# Altium schematic symbol library IHLM2525CZERR68M01.SchLib: 2 symbols
Pins are listed as number, name and electrical type; pins without a type are passive.

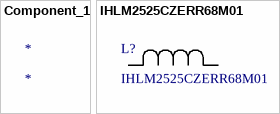
[diagram p0: symbols Component_1 to IHLM2525CZERR68M01]

## Component_1
designator *

## IHLM2525CZERR68M01
designator L?
No Description Available; Mfr_Name: Vishay; Type: DEV; Copyright: Copyright (C) 2023 Ultra Librarian. All rights reserved.; Manufacturer_Part_Number: IHLM2525CZERR68M01; RefDes: RefDes
footprint IND_IHLM-2525CZ_VIS
pins: 1, 2